# EAGLE library part MAX4734ETC+ (library max4734)
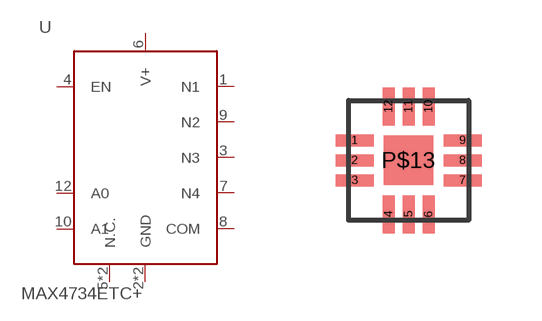
[diagram p0: symbol with the pads of TQFN-12; footprint TQFN-12]

Designator prefix U

## MAX4734ETC+  [TQFN-12]
1  N1
2  GND
3  N3
4  EN
5  N.C.
6  V+
7  N4
8  COM
9  N2
10  A1
11  N.C.
12  A0
P$13  GND

## Footprint TQFN-12 (pad centres in mm)
smd 0.95 x 0.3: 1 -1.35,0.5; 2 -1.35,0; 3 -1.35,-0.5; 7 1.35,-0.5; 8 1.35,0; 9 1.35,0.5
smd 0.3 x 0.95: 4 -0.5,-1.35; 5 0,-1.35; 6 0.5,-1.35; 10 0.5,1.35; 11 0,1.35; 12 -0.5,1.35
smd 1.23 x 1.23: P$13 0,0